# EAGLE library part PI4MSD5V9540B (library Bits_library_eagle 9x)
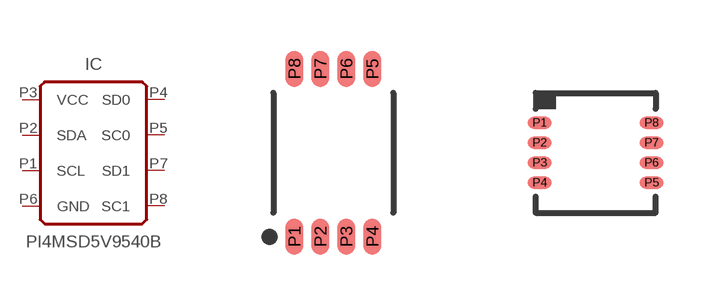
[diagram p39: symbol with the pads of MSOP-8; footprints MSOP-8, TDFN-8]

Designator prefix IC

## PI4MSD5V9540BMSOP-8  [MSOP-8]
P1  SCL
P2  SDA
P3  VCC  pwr
P4  SD0
P5  SC0
P6  GND  pwr
P7  SD1
P8  SC1

## PI4MSD5V9540BTDFN-8  [TDFN-8]
Pads as for MSOP-8

## Footprint MSOP-8 (pad centres in mm)
smd 0.45 x 0.9: P1 -0.975,-2.1; P2 -0.325,-2.1; P3 0.325,-2.1; P4 0.975,-2.1; P5 0.975,2.1; P6 0.325,2.1; P7 -0.325,2.1; P8 -0.975,2.1

## Footprint TDFN-8 (pad centres in mm)
smd 0.6 x 0.3: P1 -1.4,0.75; P2 -1.4,0.25; P3 -1.4,-0.25; P4 -1.4,-0.75; P5 1.4,-0.75; P6 1.4,-0.25; P7 1.4,0.25; P8 1.4,0.75